# Altium integrated library AIMLAB_TESTSTATION_ADC_V1.IntLib: 59 symbols
Pins are listed as number, name and electrical type; pins without a type are passive.

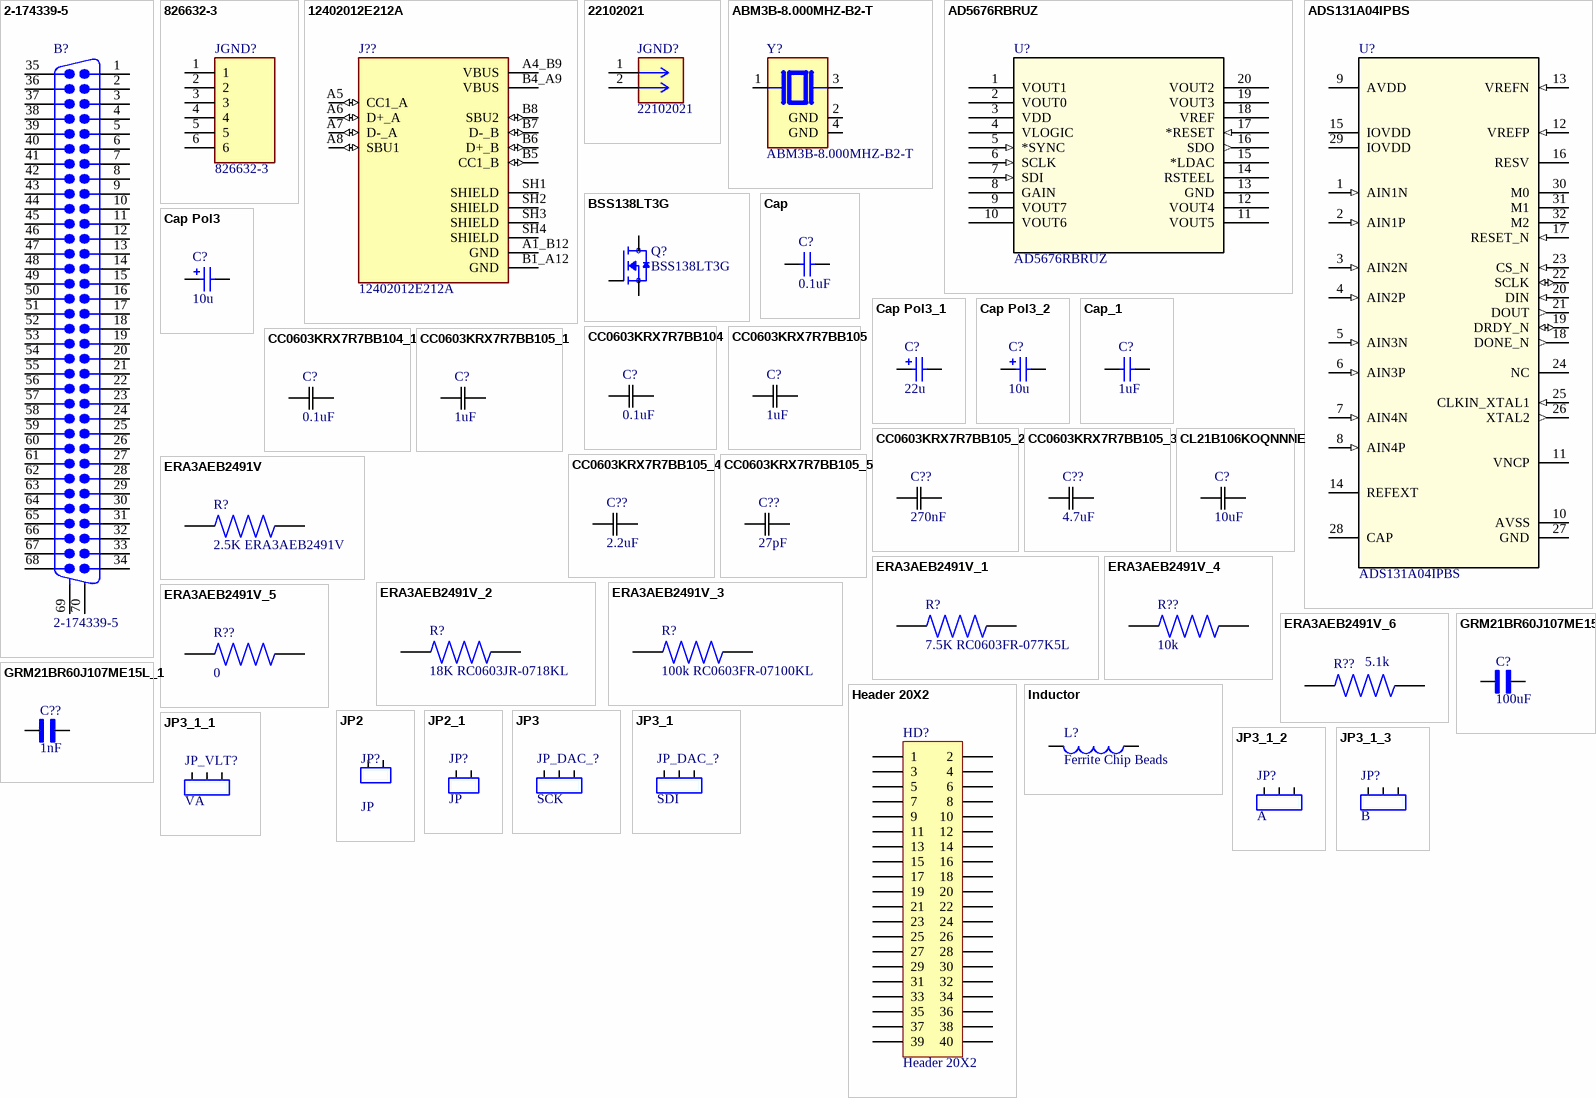
[diagram p0: symbols 2-174339-5 to JP3_1_3]

## 2-174339-5
designator B?
Cap Header, Vertical /M2.5 AMPLIMITE 050 Series II; Package Information: Latest Revision: May-1991; Positions: 68; Gender: Plug Header; Note: Without Mating Lock; PCB Layout: Complies with manufacturer's recommendation.; Drill Size: Corresponds to nominal value.; Published: 17-Jul-2002; Revision: 21-Nov-2002: PCB Footprint sequence changed.; Datasheet: (23-May-91); Package Reference: 050DSUB1.27-2V68D; Publisher: Altium Limited; Orientation: Vertical; Note: Series II
footprint 050DSUB1.27-2V68D (Footprint not found)
signal-integrity model D Subminiature
footprint Model Name (Footprint not found)
footprint CONN68_5174339_TEC
pins: 1, 2, 3, 4, 5, 6, 7, 8, 9, 10, 11, 12, 13, 14, 15, 16, 17, 18, 19, 20, 21, 22, 23, 24, 25, 26, 27, 28, 29, 30, 31, 32, 33, 34, 35, 36, 37, 38, 39, 40, 41, 42, 43, 44, 45, 46, 47, 48, 49, 50, 51, 52, 53, 54, 55, 56, 57, 58, 59, 60, 61, 62, 63, 64, 65, 66, 67, 68, 69 MH1, 70 MH2

## 826632-3
designator JGND?
PCB Breakaway Header, 2.54mm, 3 Way 2 Row, Gold, AMPMODU Headers Series | TE Connectivity 826632-3; SnapEDA_Link: https://www.snapeda.com/parts/826632-3/TE+Connectivity+AMP+Connectors/view-part/?ref=snap; Package: None; Value: *; MF: TE Connectivity; MP: 826632-3; EU_RoHS_Compliance: Compliant; Check_prices: https://www.snapeda.com/parts/826632-3/TE+Connectivity+AMP+Connectors/view-part/?ref=eda
footprint TE_826632-3
pins: 1, 2, 3, 4, 5, 6

## 12402012E212A
designator J??
USB2.0, Type C, Top mount, CH 1.68mm, Dual Row SMT; MF: Amphenol ICC (Commercial Products); MP: 12402012E212A; Price: None; Package: None; Availability: In Stock; SnapEDA_Link: https://www.snapeda.com/parts/12402012E212A/Amphenol/view-part/?ref=snap; Value: *; Check_prices: https://www.snapeda.com/parts/12402012E212A/Amphenol/view-part/?ref=eda; Purchase-URL: https://pricing.snapeda.com/search/part/12402012E212A/?ref=eda
footprint AMPHENOL_12402012E212A
pins: A1_B12 GND (power), A4_B9 VBUS (power), A5 CC1_A (io), A6 D+_A (io), A7 D-_A (io), A8 SBU1 (io), B1_A12 GND (power), B4_A9 VBUS (power), B5 CC1_B (io), B6 D+_B (io), B7 D-_B (io), B8 SBU2 (io), SH1 SHIELD, SH2 SHIELD, SH3 SHIELD, SH4 SHIELD

## 22102021
designator JGND?
Package: None; Price: None; Value: *; MP: 22102021; Availability: Unavailable
footprint CONN_A-4030-02A_MOL
pins: 1, 2

## ABM3B-8.000MHZ-B2-T
designator Y?
8 MHz Â±20ppm Crystal 18pF 200 Ohms 4-SMD, No Lead; MF: Abracon; SnapEDA_Link: https://www.snapeda.com/parts/ABM3B-8.000MHZ-B2-T/Abracon/view-part/?ref=snap; Package: SMD-4 Abracon LLC; Value: *; MP: ABM3B-8.000MHZ-B2-T; Check_prices: https://www.snapeda.com/parts/ABM3B-8.000MHZ-B2-T/Abracon/view-part/?ref=eda
footprint XTAL_ABM3B-8.000MHZ-B2-T
pins: 1, 2 GND (power), 3 2, 4 GND (power)

## AD5676RBRUZ
designator U?
Octal, 16-Bit nanoDAC+ with 2 ppm/Â°C Reference, SPI Interface; Manufacturer_Name: Analog Devices Inc; Copyright: Copyright (C) 2025 Ultra Librarian. All rights reserved.; Manufacturer_Part_Number: AD5676RBRUZ; Datasheet: https://www.analog.com/media/en/technical-documentation/data-sheets/ad5672r_5676r.pdf; RefDes: RefDes; Type: Type
footprint RU-20_ADI
pins: 1 VOUT1 (power), 2 VOUT0 (power), 3 VDD (power), 4 VLOGIC (power), 5 *SYNC (in), 6 SCLK (in), 7 SDI (in), 8 GAIN, 9 VOUT7 (power), 10 VOUT6 (power), 11 VOUT5 (power), 12 VOUT4 (power), 13 GND (power), 14 RSTEEL, 15 *LDAC, 16 SDO (out), 17 *RESET (in), 18 VREF (power), 19 VOUT3 (power), 20 VOUT2 (power)

## ADS131A04IPBS
designator U?
24-bit 128-kSPS 4-channel simultaneous-sampling delta-sigma ADC 32-TQFP -40 to 125; Manufacturer_Name: Texas Instruments; TYPE: TYPE; RefDes: RefDes; Copyright: Copyright (C) 2025 Ultra Librarian. All rights reserved.; Manufacturer_Part_Number: ADS131A04IPBS
footprint PBS0032A_N
footprint ADS131 (Footprint not found)
pins: 1 AIN1N (in), 2 AIN1P (in), 3 AIN2N (in), 4 AIN2P (in), 5 AIN3N (in), 6 AIN3P (in), 7 AIN4N (in), 8 AIN4P (in), 9 AVDD (power), 10 AVSS (power), 11 VNCP (power), 12 VREFP (in), 13 VREFN (in), 14 REFEXT, 15 IOVDD (power), 16 RESV, 17 RESET_N (in), 18 DONE_N (out), 19 DRDY_N (io), 20 DIN (in), 21 DOUT (out), 22 SCLK (io), 23 CS_N (in), 24 NC, 25 CLKIN_XTAL1 (in), 26 XTAL2 (out), 27 GND (power), 28 CAP, 29 IOVDD (power), 30 M0, 31 M1, 32 M2

## BSS138LT3G
designator Q?
MF: {'manufacturer': u'onsemi'}; Package: None; Price: None; Value: *; MP: BSS138LT3G; Availability: Unavailable
footprint SOT95P237X111-3N
pins: 1 G, 2 S, 3 D

## Cap
designator C?, comment 0.1uF
Capacitor; Value: 100pF; Published: 8-Jun-2000; Revision: July-2002: Re-released for DXP Platform.; Publisher: Altium Limited
footprint RAD-0.3 (Capacitor; 2 Leads)
simulation model CAP (Capacitor)
signal-integrity model Cap
footprint CAPR5.08-7.8X3.2
footprint CAPR2.54-5.1X3.2
footprint CAPC2012X140N
pins: 1, 2

## Cap Pol3
designator C?, comment 10u
Polarized Capacitor (Surface Mount); Value: 10uF; Published: 8-Jun-2000; Revision: July-2002: Re-released for DXP Platform.; Publisher: Altium Limited
footprint CC2012-0805 (Chip Capacitor; Body 2.0 x 1.2 mm (LxW typ))
simulation model CAP (Capacitor)
signal-integrity model Cap Pol
footprint CC4532-1812
footprint CC4564-1825
footprint CC5750-2220
footprint CC5664-2225
footprint PolarizedCap
pins: 1, 2

## Cap Pol3_1
designator C?, comment 22u
Polarized Capacitor (Surface Mount); Value: 22uF; Published: 8-Jun-2000; Revision: July-2002: Re-released for DXP Platform.; Publisher: Altium Limited
footprint CC2012-0805 (Chip Capacitor; Body 2.0 x 1.2 mm (LxW typ))
simulation model CAP (Capacitor)
signal-integrity model Cap Pol
footprint PolarizedCap
footprint CC4564-1825
footprint CC5750-2220
footprint CC5664-2225
pins: 1, 2

## Cap Pol3_2
designator C?, comment 10u
Polarized Capacitor (Surface Mount); Value: 1uF; Published: 8-Jun-2000; Revision: July-2002: Re-released for DXP Platform.; Publisher: Altium Limited
footprint CC2012-0805 (Chip Capacitor; Body 2.0 x 1.2 mm (LxW typ))
simulation model CAP (Capacitor)
signal-integrity model Cap Pol
footprint CC4532-1812
footprint CC4564-1825
footprint CC5750-2220
footprint CC5664-2225
footprint PolarizedCap
pins: 1, 2

## Cap_1
designator C?, comment 1uF
Capacitor; Value: 100pF; Published: 8-Jun-2000; Revision: July-2002: Re-released for DXP Platform.; Publisher: Altium Limited
footprint RAD-0.3 (Capacitor; 2 Leads)
simulation model CAP (Capacitor)
signal-integrity model Cap
footprint CAPR5.08-7.8X3.2
footprint CAPR2.54-5.1X3.2
footprint CAPC2012X140N
pins: 1, 2

## CC0603KRX7R7BB104
designator C?, comment 0.1uF
No Description Available; Manufacturer_Name: Yageo; Manufacturer_Part_Number: CC0603KRX7R7BB104; Copyright: Copyright (C) 2025 Ultra Librarian. All rights reserved.; Supplier 1: Avnet; Supplier Part Number 1: CC0603KRX7R7BB104
footprint CC0603N_YAG
footprint CAPC1608X90
pins: 1, 2

## CC0603KRX7R7BB104_1
designator C?, comment 0.1uF
No Description Available; Manufacturer_Name: Yageo; Manufacturer_Part_Number: CC0603KRX7R7BB104; Copyright: Copyright (C) 2025 Ultra Librarian. All rights reserved.; Supplier 1: Avnet; Supplier Part Number 1: CC0603KRX7R7BB104
footprint CC0603N_YAG
footprint CAPC1608X90
pins: 1, 2

## CC0603KRX7R7BB105
designator C?, comment 1uF
No Description Available; Manufacturer_Name: Yageo; Manufacturer_Part_Number: CC0603KRX7R7BB105; Copyright: Copyright (C) 2025 Ultra Librarian. All rights reserved.; Supplier 1: Avnet; Supplier Part Number 1: CC0603KRX7R7BB105
footprint YAG_CC0603_YAG
footprint CAPC1608X90
pins: 1, 2

## CC0603KRX7R7BB105_1
designator C?, comment 1uF
No Description Available; Manufacturer_Name: Yageo; Manufacturer_Part_Number: CC0603KRX7R7BB105; Copyright: Copyright (C) 2025 Ultra Librarian. All rights reserved.; Supplier 1: Avnet; Supplier Part Number 1: CC0603KRX7R7BB105
footprint YAG_CC0603_YAG
footprint CAPC2012X140N
pins: 1, 2

## CC0603KRX7R7BB105_2
designator C??, comment 270nF
No Description Available; Manufacturer_Name: Yageo; Manufacturer_Part_Number: CC0603KRX7R7BB105; Copyright: Copyright (C) 2025 Ultra Librarian. All rights reserved.; Supplier 1: Future Electronics; Supplier Part Number 1: 7881816
footprint YAG_CC0603_YAG
footprint CAPC1608X90
pins: 1, 2

## CC0603KRX7R7BB105_3
designator C??, comment 4.7uF
No Description Available; Manufacturer_Name: Yageo; Manufacturer_Part_Number: CC0603KRX7R7BB105; Copyright: Copyright (C) 2025 Ultra Librarian. All rights reserved.; Supplier 1: Avnet; Supplier Part Number 1: CC0603KRX7R7BB105
footprint YAG_CC0603_YAG
footprint CAPC1608X90
pins: 1, 2

## CC0603KRX7R7BB105_4
designator C??, comment 2.2uF
No Description Available; Manufacturer_Name: Yageo; Manufacturer_Part_Number: CC0603KRX7R7BB105; Copyright: Copyright (C) 2025 Ultra Librarian. All rights reserved.; Supplier 1: Avnet; Supplier Part Number 1: CC0603KRX7R7BB105
footprint YAG_CC0603_YAG
footprint CAPC1608X90
pins: 1, 2

## CC0603KRX7R7BB105_5
designator C??, comment 27pF
No Description Available; Manufacturer_Name: Yageo; Manufacturer_Part_Number: CC0603KRX7R7BB105; Copyright: Copyright (C) 2025 Ultra Librarian. All rights reserved.; Supplier 1: Avnet; Supplier Part Number 1: CC0603KRX7R7BB105
footprint YAG_CC0603_YAG
footprint CAPC1608X90
pins: 1, 2

## CL21B106KOQNNNE
designator C?, comment 10uF
No Description Available; Manufacturer_Name: Samsung; Manufacturer_Part_Number: CL21B106KOQNNNE; Copyright: Copyright (C) 2025 Ultra Librarian. All rights reserved.; Supplier 1: DigiKey; Supplier Part Number 1: 1276-2872-6-ND
footprint CAP_CL21B106KOQNNNE_SAM
footprint CAPC2012X140N
pins: 1, 2

## ERA3AEB2491V
designator R?, comment 2.5K ERA3AEB2491V
Price: None; Availability: Unavailable; Package: None; Value: *; MP: ERA3AEB2491V
footprint RES_ERA3AEB2491V
footprint Model Name (Footprint not found)
pins: 1, 2

## ERA3AEB2491V_1
designator R?, comment 7.5K RC0603FR-077K5L
MP: ERA3AEB2491V; Price: None; Availability: Unavailable; Package: None; Value: *
footprint RES_ERA3AEB2491V
pins: 1, 2

## ERA3AEB2491V_2
designator R?, comment 18K RC0603JR-0718KL
MP: ERA3AEB2491V; Price: None; Availability: Unavailable; Package: None; Value: *
footprint RES_ERA3AEB2491V
pins: 1, 2

## ERA3AEB2491V_3
designator R?, comment 100k RC0603FR-07100KL
MP: ERA3AEB2491V; Price: None; Availability: Unavailable; Package: None; Value: *
footprint RES_ERA3AEB2491V
footprint Model Name (Footprint not found)
pins: 1, 2

## ERA3AEB2491V_4
designator R??, comment 10k
MP: ERA3AEB2491V; Price: None; Availability: Unavailable; Package: None; Value: *
footprint RES_ERA3AEB2491V
footprint Model Name (Footprint not found)
pins: 1, 2

## ERA3AEB2491V_5
designator R??, comment 0
MP: ERA3AEB2491V; Price: None; Availability: Unavailable; Package: None; Value: *
footprint RES_ERA3AEB2491V
footprint Model Name (Footprint not found)
pins: 1, 2

## ERA3AEB2491V_6
designator R??, comment 5.1k
MP: ERA3AEB2491V; Price: None; Availability: Unavailable; Package: None; Value: *
footprint RES_ERA3AEB2491V
pins: 1, 2

## GRM21BR60J107ME15L
designator C?, comment 100uF
100 ÂµF Â±20% 6.3V Ceramic Capacitor X5R 0805 (2012 Metric); MF: Murata; MP: GRM21BR60J107ME15L; SnapEDA_Link: https://www.snapeda.com/parts/GRM21BR60J107ME15L/Murata/view-part/?ref=snap; Package: 2012 Murata; Value: *; Check_prices: https://www.snapeda.com/parts/GRM21BR60J107ME15L/Murata/view-part/?ref=eda
footprint CAPC2012X145N
pins: 1, 2

## GRM21BR60J107ME15L_1
designator C??, comment 1nF
100 ÂµF Â±20% 6.3V Ceramic Capacitor X5R 0805 (2012 Metric); MF: Murata; MP: GRM21BR60J107ME15L; SnapEDA_Link: https://www.snapeda.com/parts/GRM21BR60J107ME15L/Murata/view-part/?ref=snap; Package: 2012 Murata; Value: *; Check_prices: https://www.snapeda.com/parts/GRM21BR60J107ME15L/Murata/view-part/?ref=eda
footprint CAPC2012X145N
pins: 1, 2

## Header 20X2
designator HD?
Header, 20-Pin, Dual row; Revision: 17-Jul-2002: Re-released for DXP Platform.; Publisher: Altium Limited
footprint HDR2X20 (Connector; Header; 20x2 Position)
signal-integrity model Connector
footprint ZIF40
footprint HDR2X20
footprint ZIF40
pins: 1, 2, 3, 4, 5, 6, 7, 8, 9, 10, 11, 12, 13, 14, 15, 16, 17, 18, 19, 20, 21, 22, 23, 24, 25, 26, 27, 28, 29, 30, 31, 32, 33, 34, 35, 36, 37, 38, 39, 40

## Inductor
designator L?, comment Ferrite Chip Beads
Value: 10mH; Published: 8-Jun-2000; Revision: July-2002: Re-released for DXP Platform.; Publisher: Altium Limited
footprint C1005-0402 (Inductor; 2 Leads)
simulation model INDUCTOR (Inductor)
signal-integrity model Inductor
footprint CC4532-1812
footprint Inductor
pins: 1, 2

## JP2
designator JP?, comment JP
Jumper
footprint HDR1X2
pins: 1, 2

## JP2_1
designator JP?, comment JP
Jumper
footprint HDR1X2 (Connector; Header; 2 Position)
pins: 1, 2

## JP3
designator JP_DAC_?, comment SCK
Jumper
footprint HDR1X3 (Connector; Header; 3 Position)
pins: 1, 2, 3

## JP3_1
designator JP_DAC_?, comment SDI
Jumper
footprint HDR1X3 (Connector; Header; 3 Position)
pins: 1, 2, 3

## JP3_1_1
designator JP_VLT?, comment VA
Jumper
footprint HDR1X3 (Connector; Header; 3 Position)
pins: 1, 2, 3

## JP3_1_2
designator JP?, comment A
Jumper
footprint HDR1X3 (Connector; Header; 3 Position)
pins: 1, 2, 3

## JP3_1_3
designator JP?, comment B
Jumper
footprint HDR1X3 (Connector; Header; 3 Position)
pins: 1, 2, 3

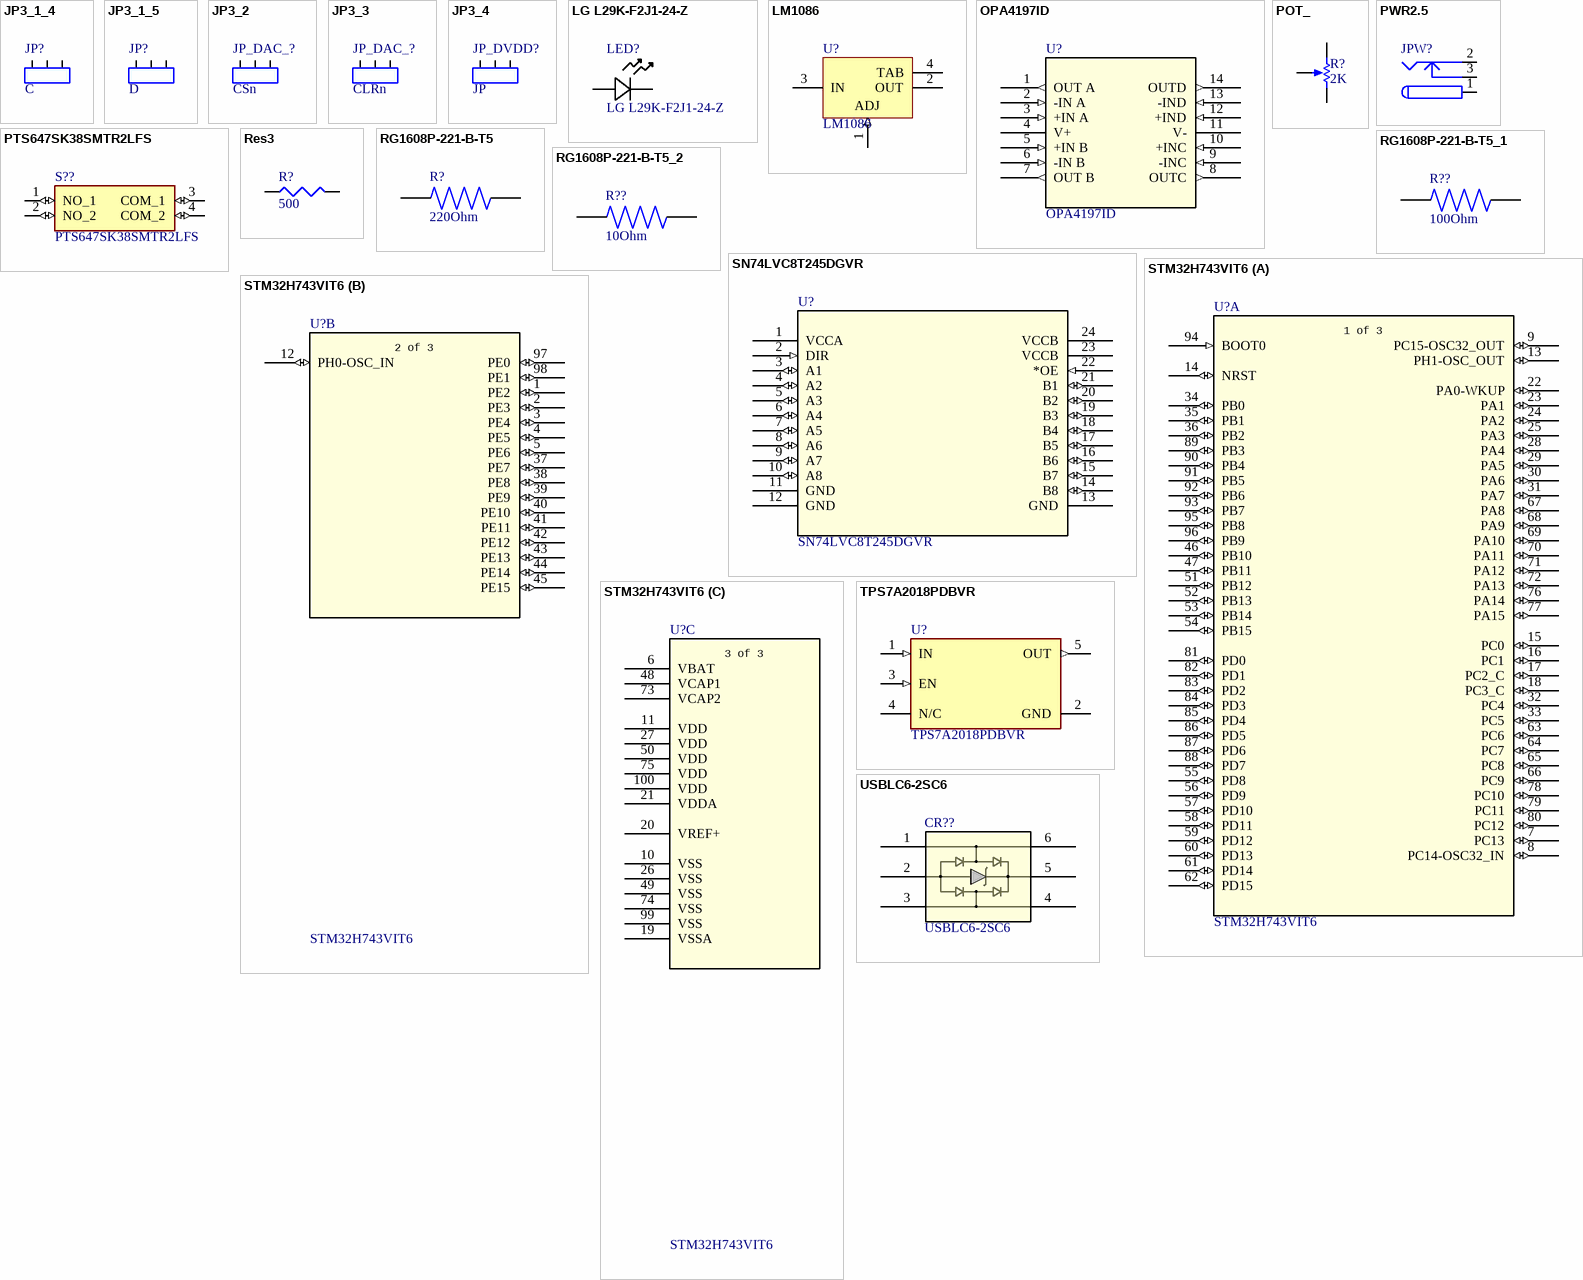
[diagram p1: symbols JP3_1_4 to USBLC6-2SC6]

## JP3_1_4
designator JP?, comment C
Jumper
footprint HDR1X3 (Connector; Header; 3 Position)
pins: 1, 2, 3

## JP3_1_5
designator JP?, comment D
Jumper
footprint HDR1X3 (Connector; Header; 3 Position)
pins: 1, 2, 3

## JP3_2
designator JP_DAC_?, comment CSn
Jumper
footprint HDR1X3 (Connector; Header; 3 Position)
pins: 1, 2, 3

## JP3_3
designator JP_DAC_?, comment CLRn
Jumper
footprint HDR1X3 (Connector; Header; 3 Position)
pins: 1, 2, 3

## JP3_4
designator JP_DVDD?, comment JP
Jumper
footprint HDR1X3
pins: 1, 2, 3

## LG L29K-F2J1-24-Z
designator LED?
Description; Manufacturer_Name: ams OSRAM; Copyright: Copyright (C) 2025 Ultra Librarian. All rights reserved.; Manufacturer_Part_Number: LG L29K-F2J1-24-Z
footprint CAPC1608X90
pins: 1, 2

## LM1086
designator U?
footprint TO-263-3
pins: 1 ADJ (in), 2 OUT (power), 3 IN (power), 4 TAB (power)

## OPA4197ID
designator U?
Quad, 36-V, precision, rail-to-rail input output, low offset voltage op amp 14-SOIC -40 to 125; Manufacturer_Name: Texas Instruments; Copyright: Copyright (C) 2025 Ultra Librarian. All rights reserved.; Manufacturer_Part_Number: OPA4197ID; Datasheet: https://www.ti.com/lit/gpn/opa4197; RefDes: RefDes; Type: Type
footprint D14_TEX
pins: 1 OUT A (out), 2 -IN A (in), 3 +IN A (in), 4 V+ (power), 5 +IN B (in), 6 -IN B (in), 7 OUT B (out), 8 OUTC (out), 9 -INC (in), 10 +INC (in), 11 V- (power), 12 +IND (in), 13 -IND (in), 14 OUTD (out)

## POT_
designator R?, comment 2K
Potentiometer; Set Position: 0.5; Value: 1K; Published: 8-Jun-2000; Revision: July-2002: Re-released for DXP Platform.; Publisher: Altium Limited
footprint VR5 (Potentiometer; 3 Leads)
simulation model POT (Potentiometer)
footprint VR2
footprint POT4MM-2
pins: 1 TOP, 2 TAP, 3 BOT
1 alternate drawing of the same symbol

## PTS647SK38SMTR2LFS
designator S??
Tactile Switch SPST-NO Top Actuated Surface Mount; MF: C&K; SnapEDA_Link: https://www.snapeda.com/parts/PTS%20647%20SK38%20SMTR2%20LFS/C%2526K/view-part/?ref=snap; Package: None; Value: *; MP: PTS 647 SK38 SMTR2 LFS; Check_prices: https://www.snapeda.com/parts/PTS%20647%20SK38%20SMTR2%20LFS/C%2526K/view-part/?ref=eda
footprint PTS647SK38SMTR2LFS
pins: 1 NO_1 (io), 2 NO_2 (io), 3 COM_1 (io), 4 COM_2 (io)

## PWR2.5
designator JPW?
Low Voltage Power Supply Connector; Published: 17-Dec-2003; Datasheet: Latest Revision: 09-May-2002; Publisher: Altium Limited
footprint KLD-0202 (DC Power Jack, 2.5mm, KLD Series, PCB Mount)
signal-integrity model Connector
footprint KLD-0202_
pins: 1 (power), 2 (power), 3 (power)

## Res3
designator R?, comment 500
Resistor; Published: 8-Jun-2000; Revision: July-2002: Re-released for DXP Platform.; Publisher: Altium Limited; Value: 500
footprint Resistor
simulation model RESISTOR (Resistor)
signal-integrity model Res
footprint CR3225-1210
footprint CR5025-2010
footprint CR6332-2512
pins: 1, 2
1 alternate drawing of the same symbol

## RG1608P-221-B-T5
designator R?, comment 220Ohm
RG1608P-221-B-T5; Package: None; Price: None; Value: *; MP: RG1608P-221-B-T5; Availability: Unavailable
footprint RESC1608X50N
pins: 1, 2

## RG1608P-221-B-T5_1
designator R??, comment 100Ohm
RG1608P-221-B-T5; Package: None; Price: None; Value: *; MP: RG1608P-221-B-T5; Availability: Unavailable
footprint RESC1608X50N
pins: 1, 2

## RG1608P-221-B-T5_2
designator R??, comment 10Ohm
RG1608P-221-B-T5; Package: None; Price: None; Value: *; MP: RG1608P-221-B-T5; Availability: Unavailable
footprint RESC1608X50N
pins: 1, 2

## SN74LVC8T245DGVR
designator U?
8-Bit Dual-Supply Bus Transceiver with Configurable Voltage-Level Shifting and Three-State Outputs 24-TVSOP -40 to 85; Manufacturer_Name: Texas Instruments; Copyright: Copyright (C) 2025 Ultra Librarian. All rights reserved.; Manufacturer_Part_Number: SN74LVC8T245DGVR; Datasheet: https://www.ti.com/lit/gpn/sn74lvc8t245; RefDes: RefDes; Type: Type
footprint DGV24
pins: 1 VCCA (power), 2 DIR (in), 3 A1 (io), 4 A2 (io), 5 A3 (io), 6 A4 (io), 7 A5 (io), 8 A6 (io), 9 A7 (io), 10 A8 (io), 11 GND (power), 12 GND (power), 13 GND (power), 14 B8 (io), 15 B7 (io), 16 B6 (io), 17 B5 (io), 18 B4 (io), 19 B3 (io), 20 B2 (io), 21 B1 (io), 22 *OE (in), 23 VCCB (power), 24 VCCB (power)

## STM32H743VIT6
designator U?
High-performance and DSP with DP-FPU, Arm Cortex-M7 MCU with 2MBytes of Flash memory, 1MB RAM, 480 MHz CPU, Art Accelerator, L1 cache, external memory interface, large set of peripherals; Manufacturer_Name: STMicroelectronics; Copyright: Copyright (C) 2025 Ultra Librarian. All rights reserved.; Manufacturer_Part_Number: STM32H743VIT6; RefDes: RefDes; Type: Type
footprint LQFP100-14x14mm
part A pins: 7 PC13 (io), 8 PC14-OSC32_IN (io), 9 PC15-OSC32_OUT (io), 13 PH1-OSC_OUT (io), 14 NRST (io), 15 PC0 (io), 16 PC1 (io), 17 PC2_C (io), 18 PC3_C (io), 22 PA0-WKUP (io), 23 PA1 (io), 24 PA2 (io), 25 PA3 (io), 28 PA4 (io), 29 PA5 (io), 30 PA6 (io), 31 PA7 (io), 32 PC4 (io), 33 PC5 (io), 34 PB0 (io), 35 PB1 (io), 36 PB2 (io), 46 PB10 (io), 47 PB11 (io), 51 PB12 (io), 52 PB13 (io), 53 PB14 (io), 54 PB15 (io), 55 PD8 (io), 56 PD9 (io), 57 PD10 (io), 58 PD11 (io), 59 PD12 (io), 60 PD13 (io), 61 PD14 (io), 62 PD15 (io), 63 PC6 (io), 64 PC7 (io), 65 PC8 (io), 66 PC9 (io), 67 PA8 (io), 68 PA9 (io), 69 PA10 (io), 70 PA11 (io), 71 PA12 (io), 72 PA13 (io), 76 PA14 (io), 77 PA15 (io), 78 PC10 (io), 79 PC11 (io), 80 PC12 (io), 81 PD0 (io), 82 PD1 (io), 83 PD2 (io), 84 PD3 (io), 85 PD4 (io), 86 PD5 (io), 87 PD6 (io), 88 PD7 (io), 89 PB3 (io), 90 PB4 (io), 91 PB5 (io), 92 PB6 (io), 93 PB7 (io), 94 BOOT0 (in), 95 PB8 (io), 96 PB9 (io)
part B pins: 1 PE2 (io), 2 PE3 (io), 3 PE4 (io), 4 PE5 (io), 5 PE6 (io), 12 PH0-OSC_IN (io), 37 PE7 (io), 38 PE8 (io), 39 PE9 (io), 40 PE10 (io), 41 PE11 (io), 42 PE12 (io), 43 PE13 (io), 44 PE14 (io), 45 PE15 (io), 97 PE0 (io), 98 PE1 (io)
part C pins: 6 VBAT (power), 10 VSS (power), 11 VDD (power), 19 VSSA (power), 20 VREF+ (power), 21 VDDA (power), 26 VSS (power), 27 VDD (power), 48 VCAP1 (power), 49 VSS (power), 50 VDD (power), 73 VCAP2 (power), 74 VSS (power), 75 VDD (power), 99 VSS (power), 100 VDD (power)
part A text: 1 of 3
part B text: 2 of 3
part C text: 3 of 3

## TPS7A2018PDBVR
designator U?
MF: {'manufacturer': u'Texas Instruments'}; Package: None; Price: None; Value: *; MP: TPS7A2018PDBVR; Availability: Unavailable
footprint SOT95P280X145-5N
pins: 1 IN (in), 2 GND (power), 3 EN (in), 4 N/C, 5 OUT (out)

## USBLC6-2SC6
designator CR??
ESD Protection for USB 2.0 High Speed; Manufacturer_Name: STMicroelectronics; Copyright: Copyright (C) 2025 Ultra Librarian. All rights reserved.; Manufacturer_Part_Number: USBLC6-2SC6; RefDes: RefDes; Type: Type
footprint SOT23-6L_STM
pins: 1, 2, 3, 4, 5, 6